# Altium footprint library MGN1S1208MCR7.PcbLib: 1 footprints
Each footprint in its own frame and in the unit in brackets; x right, y up, seen from the top. Pads: shape width x height; smd on the part's side, far side on the other; paste and mask are expansions set on the pad; w line width, h text height; cw(c..) or ccw(c..) is an arc to the next point about the centre after c.
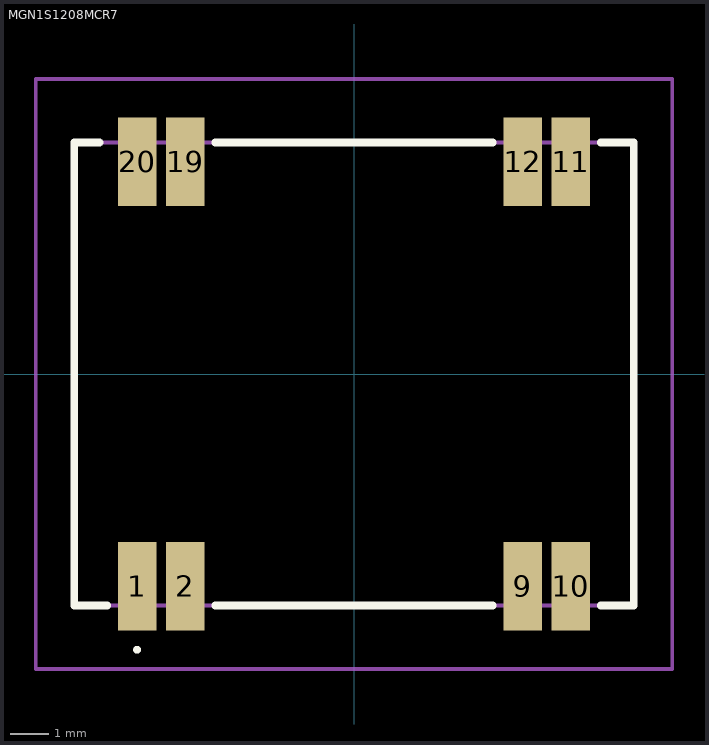
[diagram p0: the footprint, top view; thin cyan lines are the x and y axes]

## MGN1S1208MCR7 [mm]
pads (8):
  rect 1x2.3 smd: 1(-5.625,-5.5) 2(-4.375,-5.5) 9(4.375,-5.5) 10(5.625,-5.5) 11(5.625,5.5) 12(4.375,5.5) 19(-4.375,5.5) 20(-5.625,5.5)
Top Overlay:
  lines w0.1: -5.625,-7.2 -5.625,-7.2 ; -5.625,-7.2 ccw(c-5.625,-7.15) -5.625,-7.1 ; -5.625,-7.2 cw(c-5.625,-7.15) -5.625,-7.1 ; -5.625,-7.1 -5.625,-7.1
  lines w0.2: -6.6,6 -7.25,6 -7.25,-6 -6.4,-6 ; -3.6,-6 3.6,-6 ; -3.6,6 3.6,6 ; 6.4,-6 7.25,-6 7.25,6 6.4,6
Mechanical 15:
  lines w0.1: -7.25,-6 7.25,-6 7.25,6 -7.25,6 -7.25,-6
Mechanical 20:
  lines w0.1: -8.25,-7.65 8.25,-7.65 8.25,7.65 -8.25,7.65 -8.25,-7.65